# Altium schematic symbol library TLE75602ESDXUMA1.SchLib: 1 symbol
Pins are listed as number, name and electrical type; pins without a type are passive.

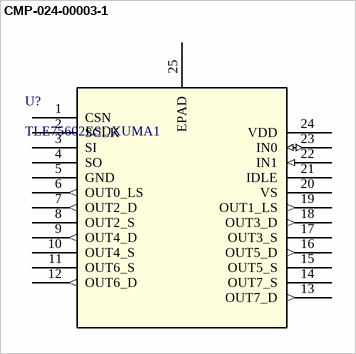
[diagram p0: symbol CMP-024-00003-1]

## CMP-024-00003-1
designator U?, comment TLE75602ESDXUMA1
SPIDER+ 12V SPI Driver for Enhanced Relay Control, PG-TSDSO-24, RoHS
footprint PG-TSDSO-24-21_INF
footprint PG-TSDSO-24-21_INF-M
pins: 1 CSN, 2 SCLK, 3 SI, 4 SO, 5 GND (power), 6 OUT0_LS (out), 7 OUT2_D (out), 8 OUT2_S (power), 9 OUT4_D (out), 10 OUT4_S, 11 OUT6_S, 12 OUT6_D (out), 13 OUT7_D (out), 14 OUT7_S, 15 OUT5_S, 16 OUT5_D (out), 17 OUT3_S (power), 18 OUT3_D (out), 19 OUT1_LS (out), 20 VS, 21 IDLE, 22 IN1 (in), 23 IN0 (io), 24 VDD (power), 25 EPAD